# Altium footprint library 74LVC1T45GF,132.PcbLib: 1 footprints
Each footprint in its own frame and in the unit in brackets; x right, y up, seen from the top. Pads: shape width x height; smd on the part's side, far side on the other; paste and mask are expansions set on the pad; w line width, h text height; cw(c..) or ccw(c..) is an arc to the next point about the centre after c.
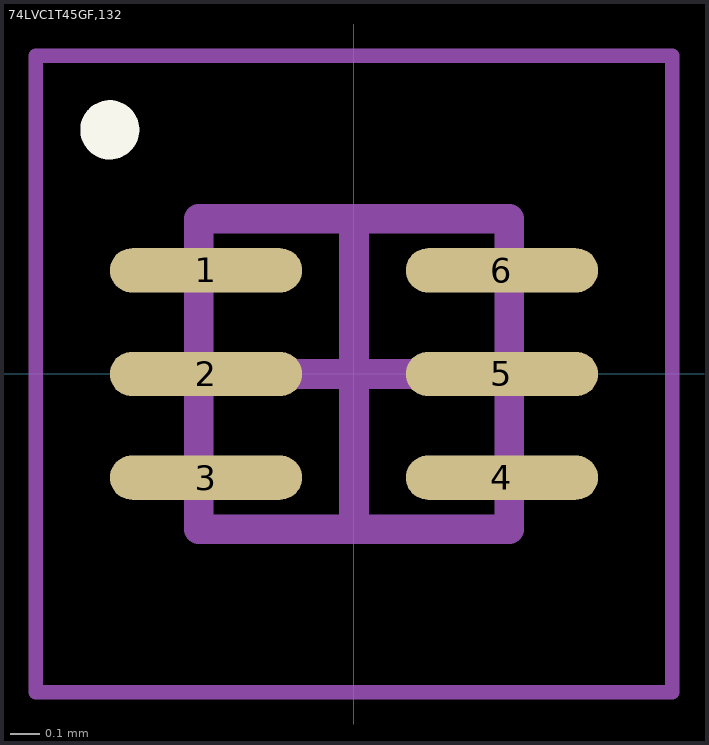
[diagram p0: the footprint, top view; thin cyan lines are the x and y axes]

## 74LVC1T45GF,132 [mm]
height 0.5
pads (6):
  oval 0.65x0.15 smd: 1(-0.5,0.35) 2(-0.5,0) 3(-0.5,-0.35) 4(0.5,-0.35) 5(0.5,0) 6(0.5,0.35)
Top Overlay:
  circle w0.1: c-0.825,0.825 r0.05
Mechanical 13:
  lines w0.1: -0.525,-0.525 -0.525,0.525 0.525,0.525 0.525,-0.525 -0.525,-0.525
Mechanical 15:
  lines w0.05: -1.075,-1.075 -1.075,1.075 1.075,1.075 1.075,-1.075 -1.075,-1.075
  lines w0.1: -0.5,0 0.5,0 ; 0,-0.5 0,0.5
3D body "74LVC1T45GF,132.step": height 0.5, standoff 0, extent -0.526,-0.525 0.526,0.525